# EAGLE library part 6861XX183822_686122183822 (library WR-FPC)
WR-FPC 1.00 mm SMT ZIF Vertical Type A General Information Pitch 1 mm Material Properties Insulator Material PA6T Contact Material Phosphor Bronze Contact Plating 120 (µ") Tin over 30 (µ") Nickel Solder Tabs Brass <https://www.we-online.com/components/media/o83988v209%20Family_WR-FPC_6861xx183822.jpg> Details see: www.we-online.com/en/components/products/FPC_1_00_SMT_ZIF_VERTICAL_TYPE_A_6861XX183822 <www.we-online.com/catalog/FPC_1_00_SMT_ZIF_VERTICAL_TYPE_A_6861XX183822/?utm_source=eagle_model&utm_medium=description_link&utm_campaign=eisos_eagle> Updated by Ella Wu, 2020-08-25 2020 (C) Würth Elektronik
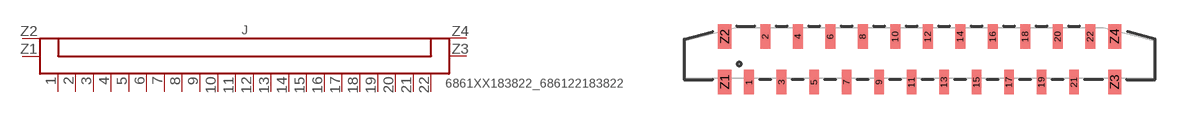
[diagram p92: symbol with the pads of 686122183822; footprint 686122183822]

Designator prefix J

## 6861XX183822_686122183822 (CONTACT-RESISTANCE: 30mOhm; DATASHEET-URL: https://www.we-online.com/redexpert/spec/686122183822?ae; IR: 1A; L: 28.8mm; MATE-WITH: WR-FFC 1.00 mm Flat Flexible Cable Type 1 (Contacts on same side)/ Type 2 (Contacts opposite); PACKAGING: Tape and Reel; PART-NUMBER: 686122183822; PINS: 22; PITCH: 1mm; TYPE: Vertical; VALUE: 686122183822; WORKING-VOLTAGE: 125V(AC))  [686122183822]
1  1  pas
2  2  pas
3  3  pas
4  4  pas
5  5  pas
6  6  pas
7  7  pas
8  8  pas
9  9  pas
10  10  pas
11  11  pas
12  12  pas
13  13  pas
14  14  pas
15  15  pas
16  16  pas
17  17  pas
18  18  pas
19  19  pas
20  20  pas
21  21  pas
22  22  pas
Z1  Z1  pas
Z2  Z2  pas
Z3  Z3  pas
Z4  Z4  pas

## Footprint 686122183822 (pad centres in mm)
WR-FPC 1.00 mm SMT ZIF Vertical Type A, 22 Pins
smd 0.6 x 1.5: 1 -10.5,-1.8; 2 -9.5,1; 3 -8.5,-1.8; 4 -7.5,1; 5 -6.5,-1.8; 6 -5.5,1; 7 -4.5,-1.8; 8 -3.5,1; 9 -2.5,-1.8; 10 -1.5,1; 11 -0.5,-1.8; 12 0.5,1; 13 1.5,-1.8; 14 2.5,1; 15 3.5,-1.8; 16 4.5,1; 17 5.5,-1.8; 18 6.5,1; 19 7.5,-1.8; 20 8.5,1; 21 9.5,-1.8; 22 10.5,1
smd 0.8 x 1.5: Z1 -12,-1.8; Z2 -12,1; Z3 12,-1.8; Z4 12,1